# Altium footprint library DiodeMBR0520W.PcbLib: 1 footprints
Each footprint in its own frame and in the unit in brackets; x right, y up, seen from the top. Pads: shape width x height; smd on the part's side, far side on the other; paste and mask are expansions set on the pad; w line width, h text height; cw(c..) or ccw(c..) is an arc to the next point about the centre after c.
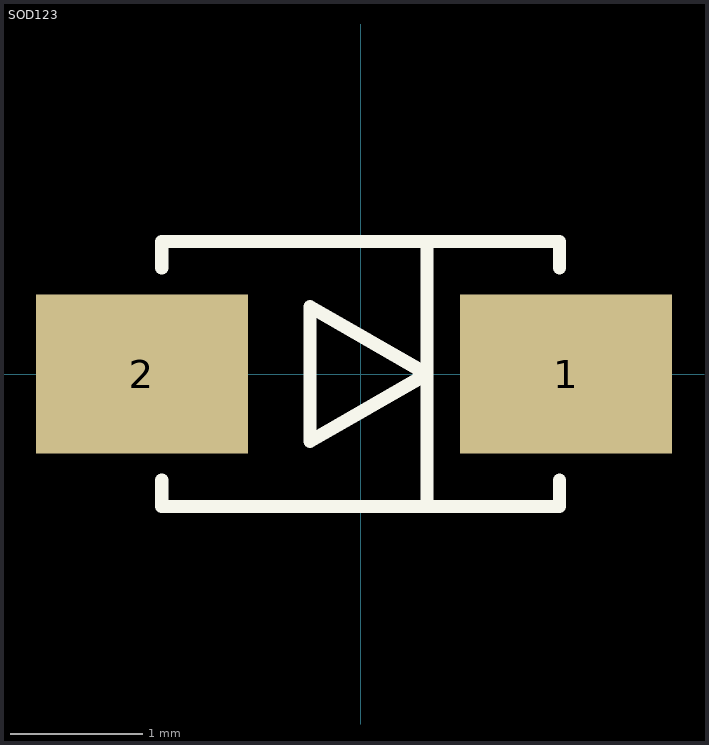
[diagram p0: the footprint, top view; thin cyan lines are the x and y axes]

## SOD123 [mm] "SOD123, 2-Leads, Body 2.7x1.55mm, Height 1.45mm"
height 1.45
pads (2):
  rect 1.6x1.2 smd: 1(1.55,0) 2(-1.65,0)
Top Overlay:
  lines w0.1: -1.5,-0.8 -1.5,-1 1.5,-1 1.5,-0.8 ; -1.5,0.8 -1.5,1 1.5,1 1.5,0.8 ; 0.5,-1 0.5,1 ; -0.381,-0.508 0.5,0 -0.381,0.508 -0.381,-0.508
3D body: height 0.25, standoff 0, extent -1.8,-0.35 1.8,0.35
3D body: height 1.2, standoff 0, extent -1.35,-0.85 1.35,0.85
3D body: height 1.21, standoff 0, extent 0.8,-0.86 0.9,0.86